# Altium footprint library Sumo Footprints.PcbLib: 37 footprints (part 1 of 3)
Each footprint in its own frame and in the unit in brackets; x right, y up, seen from the top. Pads: shape width x height; smd on the part's side, far side on the other; paste and mask are expansions set on the pad; w line width, h text height; cw(c..) or ccw(c..) is an arc to the next point about the centre after c.
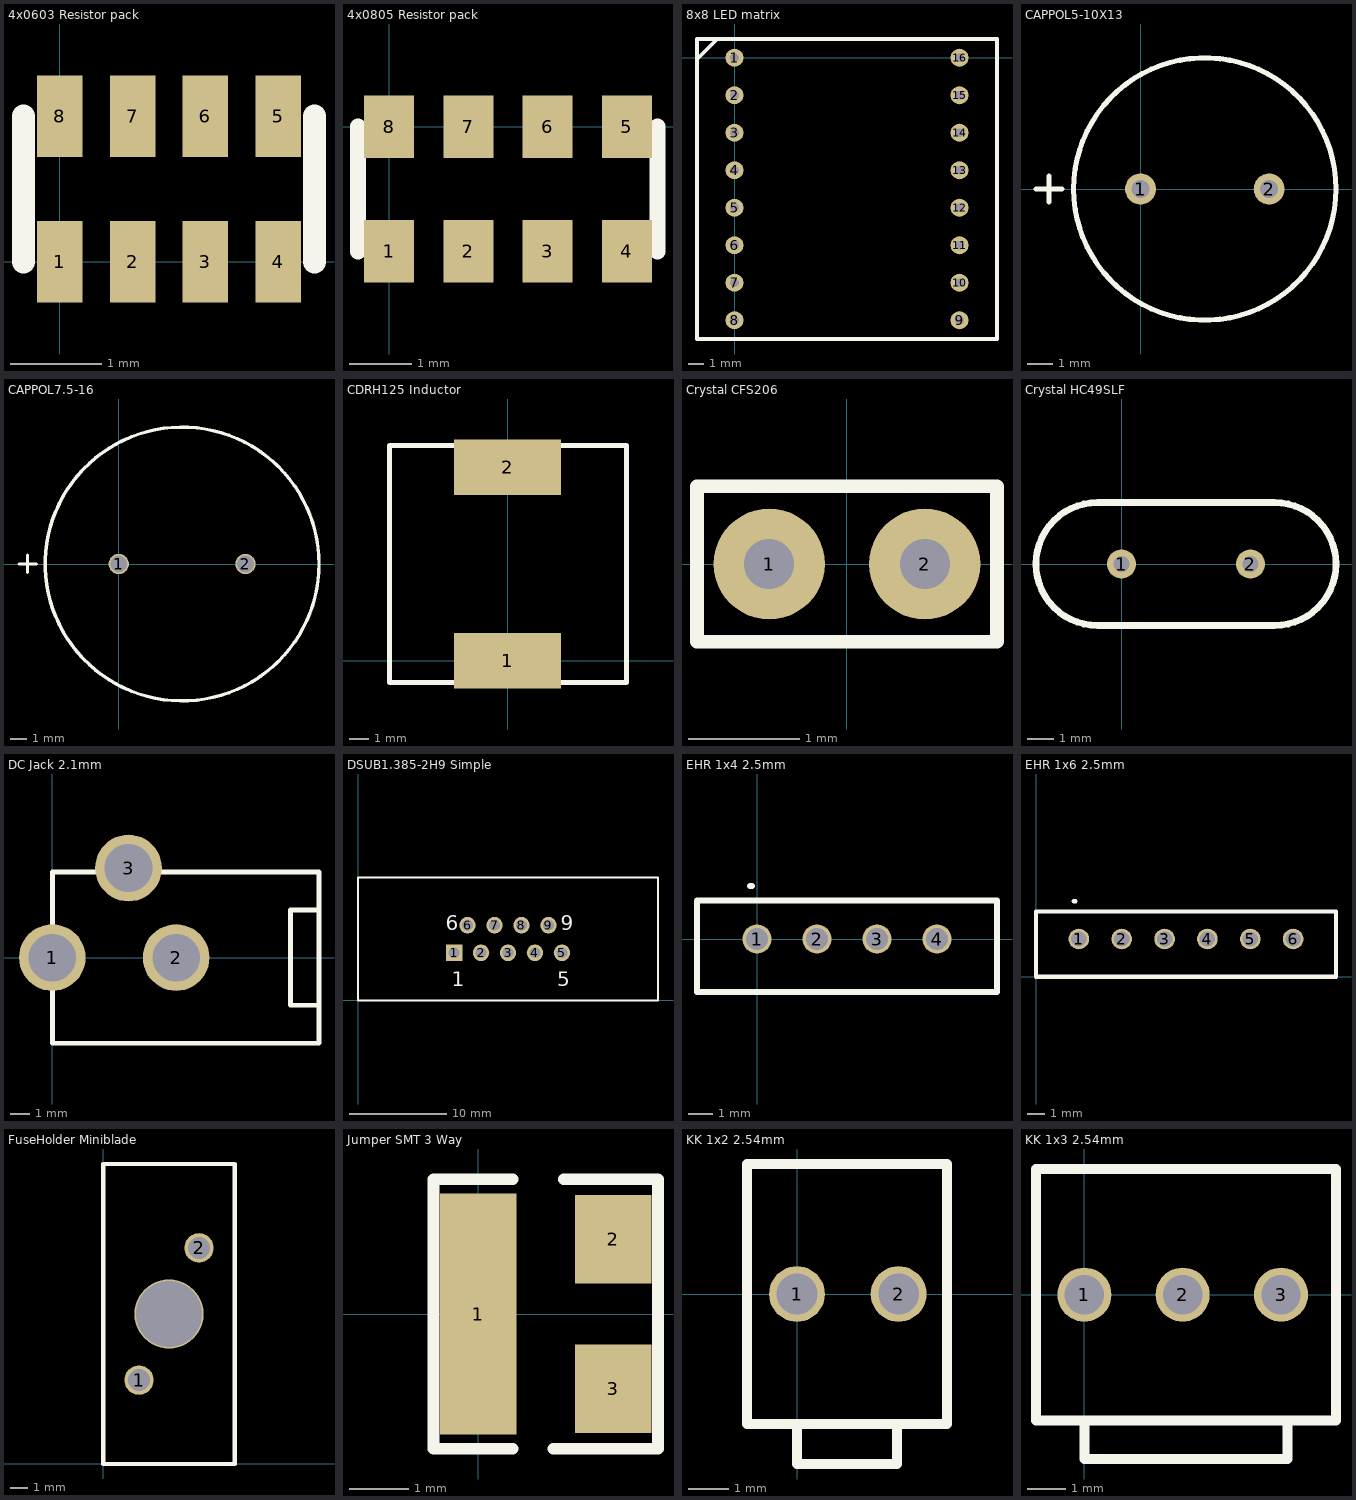
[diagram p0: the footprints below, top view; thin cyan lines are the x and y axes]

## 4x0603 Resistor pack [mm] "4x0603 Resistor pack 3.2 x 1.6mm, 0.8mm Pitch"
pads (8):
  rect 0.5x0.9 smd: 1(0,0) 2(0.8,0) 3(1.6,0) 4(2.4,0) 5(2.4,1.6) 6(1.6,1.6) 7(0.8,1.6) 8(0,1.6)
Top Overlay:
  lines w0.254: -0.4,0 -0.4,1.6 ; 2.8,0 2.8,1.6

## 4x0805 Resistor pack [mm] "4x0805 Resistor pack 5.08 x 2mm, 1.27mm Pitch"
pads (8):
  rect 0.8x1 smd: 1(0,-2) 2(1.27,-2) 3(2.54,-2) 4(3.81,-2) 5(3.81,0) 6(2.54,0) 7(1.27,0) 8(0,0)
Top Overlay:
  lines w0.254: -0.5,-2 -0.5,0 ; 4.3,-2 4.3,0

## 8x8 LED matrix [mm] "8x8 LED matrix 2.5mm pitch"
pads (16):
  round 1.2 hole 0.6: 1(0,0) 2(0,-2.5) 3(0,-5) 4(0,-7.5) 5(0,-10) 6(0,-12.5) 7(0,-15) 8(0,-17.5) 9(15,-17.5) 10(15,-15) 11(15,-12.5) 12(15,-10) 13(15,-7.5) 14(15,-5) 15(15,-2.5) 16(15,0)
Top Overlay:
  lines w0.254: -2.4,0 -1.2,1.2 -1.2,1.25 ; -2.5,-18.75 -2.5,1.25 17.5,1.25 17.5,-18.75 -2.5,-18.75

## CAPPOL5-10X13 [mm]
pads (2):
  round 1.2 hole 0.7: 1(0,0) 2(5,0)
Top Overlay:
  circle w0.2: c2.5,0 r5.1
  lines w0.2: -4.064,0 -3.048,0 ; -3.556,-0.508 -3.556,0.508

## CAPPOL7.5-16 [mm] "7.5P, 16D, 0.8PD"
pads (2):
  round 1.2 hole 1: 1(0,0) 2(7.5,0)
Top Overlay:
  circle w0.2: c3.75,0 r8.1
  lines w0.2: -5.9,0 -4.884,0 ; -5.4,-0.5 -5.4,0.516

## CDRH125 Inductor [mm] "CDRH125 Inductor 12.3mm x 12.3mm"
height 6
pads (2):
  rect 5.4x2.8 smd: 1(0,0) 2(0,9.8)
Top Overlay:
  lines w0.254: -5.975,-1.1 6.025,-1.1 6.025,10.9 -5.975,10.9 -5.975,-1.1

## Crystal CFS206 [mm] "Crystal CFS206 0.7mm pitch 0.2mm lead"
pads (2):
  round 1 hole 0.45: 1(-0.7,0) 2(0.7,0)
Top Overlay:
  lines w0.125: -1.35,-0.7 0,-0.7 1.35,-0.7 1.35,0.7 -1.35,0.7 -1.35,-0.7

## Crystal HC49SLF [mm] "HC49SLF TH 4.88mm Pitch, 0.43mm lead"
pads (2):
  round 1.1 hole 0.6: 1(0,0) 2(4.88,0)
Top Overlay:
  lines w0.254: -0.91,-2.325 cw(c-0.91,0) -0.91,2.325 5.79,2.325 cw(c5.79,0) 5.79,-2.325 -0.91,-2.325

## DC Jack 2.1mm [mm] "DC Jack 2.1mm  Altronics P0620"
pads (3):
  round 3.5 hole 2.5: 1(0,0) 2(6.5,0) 3(4,4.7)
Top Overlay:
  lines w0.254: 14,-2.5 12.5,-2.5 12.5,2.5 14,2.5 ; 0,-4.5 14,-4.5 14,4.5 0,4.5 0,-4.5

## DSUB1.385-2H9 Simple [mm]
pads (9):
  rect 1.69x1.69 hole 1.09: 1(9.86,4.88)
  round 1.69 hole 1.09: 2(12.63,4.88) 3(15.4,4.88) 4(18.17,4.88) 5(20.94,4.88) 6(11.245,7.72) 7(14.015,7.72) 8(16.785,7.72) 9(19.555,7.72)
Top Overlay:
  lines w0.2: 0,0 30.8,0 30.8,12.6 0,12.6 0,0
  text "1" at 9.61,1.425 h1.5
  text "5" at 20.44,1.425 h1.5
  text "9" at 20.8,7.2 h1.5
  text "6" at 9,7.2 h1.5

## EHR 1x4 2.5mm [mm] "JST EHR 1x4 2.5mm 3A"
pads (4):
  round 1.2 hole 0.9: 1(0,0) 2(2.5,0) 3(5,0) 4(7.5,0)
Top Overlay:
  lines w0.254: -0.3,2.2 -0.2,2.2 ; -2.5,-2.2 10,-2.2 10,1.6 -2.5,1.6 -2.5,-2.2

## EHR 1x6 2.5mm [mm] "JST EHR 1x6 2.5mm 3A"
pads (6):
  round 1.2 hole 0.9: 1(2.5,2.2) 2(5,2.2) 3(7.5,2.2) 4(10,2.2) 5(12.5,2.2) 6(15,2.2)
Top Overlay:
  lines w0.254: 2.2,4.4 2.3,4.4 ; 0,0 0,3.8 17.5,3.8 17.5,0 0,0

## FuseHolder Miniblade [mm] "FuseHolder Miniblade"
pads (3):
  round 1.7 hole 1.27: 1(2.07,4.84) 2(5.53,12.46)
  round 4 hole 3.8: ""(3.8,8.65)
Top Overlay:
  lines w0.254: 0,0 0,17.3 7.6,17.3 7.6,0 0,0

## Jumper SMT 3 Way [mm]
pads (3):
  rect 1.3x4.084 smd: 1(0,0)
  rect 1.3x1.5 smd: 2(2.286,1.27) 3(2.286,-1.27)
Top Overlay:
  lines w0.2: 0.584,-2.286 -0.762,-2.286 -0.762,2.286 0.584,2.286 ; 1.27,-2.286 3.048,-2.286 3.048,2.286 1.448,2.286

## KK 1x2 2.54mm [mil] "KK 1x2 2.54mm 4A"
pads (2):
  round 55 hole 40: 1(0,0) 2(100,0)
Top Overlay:
  lines w10: 0,-127.95 0,-167.32 98.43,-167.32 98.43,-127.95 ; -49.21,-127.95 -49.21,127.95 147.64,127.95 147.64,-127.95 -49.21,-127.95

## KK 1x3 2.54mm [mil] "KK 1x3 2.54mm 4A"
pads (3):
  round 55 hole 40: 1(0,0) 2(100,0) 3(200,0)
Top Overlay:
  lines w10: 0,-127.95 0,-167.32 206.69,-167.32 206.69,-127.95 ; -49.21,-127.95 255.91,-127.95 255.91,127.95 -49.21,127.95 -49.21,-127.95